# EAGLE library part MPU6050_MODULE (library SE423EagleLibrary)
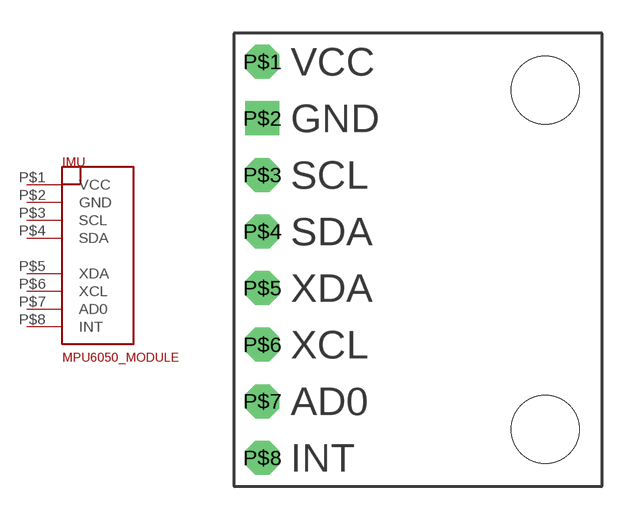
[diagram p11: symbol with the pads of MPU6050_MODULE; footprint MPU6050_MODULE]

Designator prefix IMU

## MPU6050_MODULE  [MPU6050_MODULE]
P$1  VCC
P$2  GND
P$3  SCL
P$4  SDA
P$5  XDA
P$6  XCL
P$7  AD0
P$8  INT

## Footprint MPU6050_MODULE (pad centres in mm)
drill 1.016 octagon: P$1 0,2.54; P$3 0,-2.54; P$4 0,-5.08; P$5 0,-7.62; P$6 0,-10.16; P$7 0,-12.7; P$8 0,-15.24
drill 1.016 square: P$2 0,0
hole 3.048 at 12.7,-13.97
hole 3.048 at 12.7,1.27